# EAGLE library part 01STANDARD_PQ2625_THT_V_12PIN (library Wurth Electronics Midcom Inc V1-0)
Package Style: Standard PQ2625 Mounting: THT Pins: 12 pins Bobbin: 070-5649 Best pinouts for production vary per application. Please contact Wurth Electronics Midcom, Inc. for assistance with your custom design. Website: Wurth Electronics Midcom <http://www.we-online.com/midcom> Contact us Wurth Electronics Midcom, Inc. 121 Airport Dr. Watertown, SD 57201 Phone: (605) 886-4385 Fax: (605) 886-4486 E-Mail: midcom@we-online.com
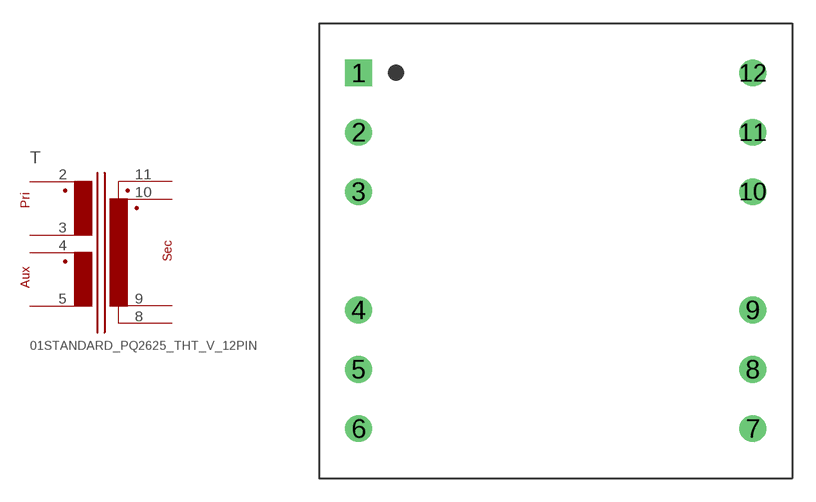
[diagram p191: symbol with the pads of 01STANDARD_PQ2625_THT_V_12PIN; footprint 01STANDARD_PQ2625_THT_V_12PIN]

Designator prefix T

## 01STANDARD_PQ2625_THT_V_12PIN  [01STANDARD_PQ2625_THT_V_12PIN]
2  1  pas
3  2  pas
4  3  pas
5  4  pas
8  6  pas
9  8  pas
10  7  pas
11  5  pas

## Footprint 01STANDARD_PQ2625_THT_V_12PIN (pad centres in mm)
Package Style: Speedy PQ2625 Mounting: THT Pins: 12 pins Bobbin: 070-5649
drill 1.143 square: 1 -12.649,11.417
drill 1.143 round: 2 -12.649,7.607; 3 -12.649,3.797; 4 -12.649,-3.797; 5 -12.649,-7.607; 6 -12.649,-11.417; 7 12.649,-11.417; 8 12.649,-7.607; 9 12.649,-3.797; 10 12.649,3.797; 11 12.649,7.607; 12 12.649,11.417